# EAGLE library part PINHD-3X5 (library 25pinhead)
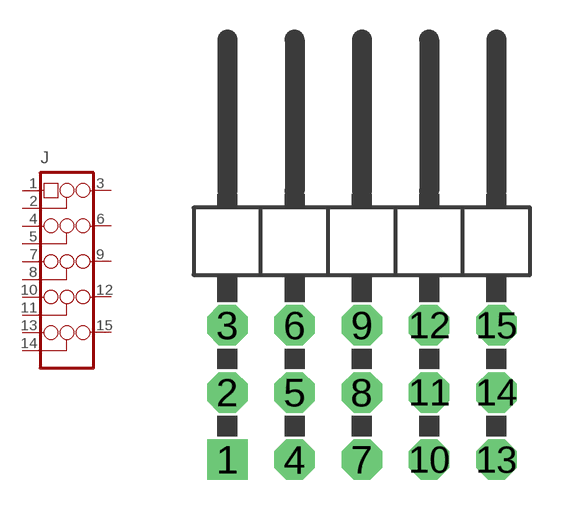
[diagram p50: symbol with the pads of 3X05/90; footprint 3X05/90]

Designator prefix J

## PINHD-3X5/90  [3X05/90]
1  1  pas
2  2  pas
3  3  pas
4  4  pas
5  5  pas
6  6  pas
7  7  pas
8  8  pas
9  9  pas
10  10  pas
11  11  pas
12  12  pas
13  13  pas
14  14  pas
15  15  pas

## Footprint 3X05/90 (pad centres in mm)
drill 1.016 square: 1 -5.08,-7.62
drill 1.016 octagon: 2 -5.08,-5.08; 3 -5.08,-2.54; 4 -2.54,-7.62; 5 -2.54,-5.08; 6 -2.54,-2.54; 7 0,-7.62; 8 0,-5.08; 9 0,-2.54; 10 2.54,-7.62; 11 2.54,-5.08; 12 2.54,-2.54; 13 5.08,-7.62; 14 5.08,-5.08; 15 5.08,-2.54